# Altium footprint library 基础元器件.PcbLib: 24 footprints (part 1 of 2)
Each footprint in its own frame and in the unit in brackets; x right, y up, seen from the top. Pads: shape width x height; smd on the part's side, far side on the other; paste and mask are expansions set on the pad; w line width, h text height; cw(c..) or ccw(c..) is an arc to the next point about the centre after c.
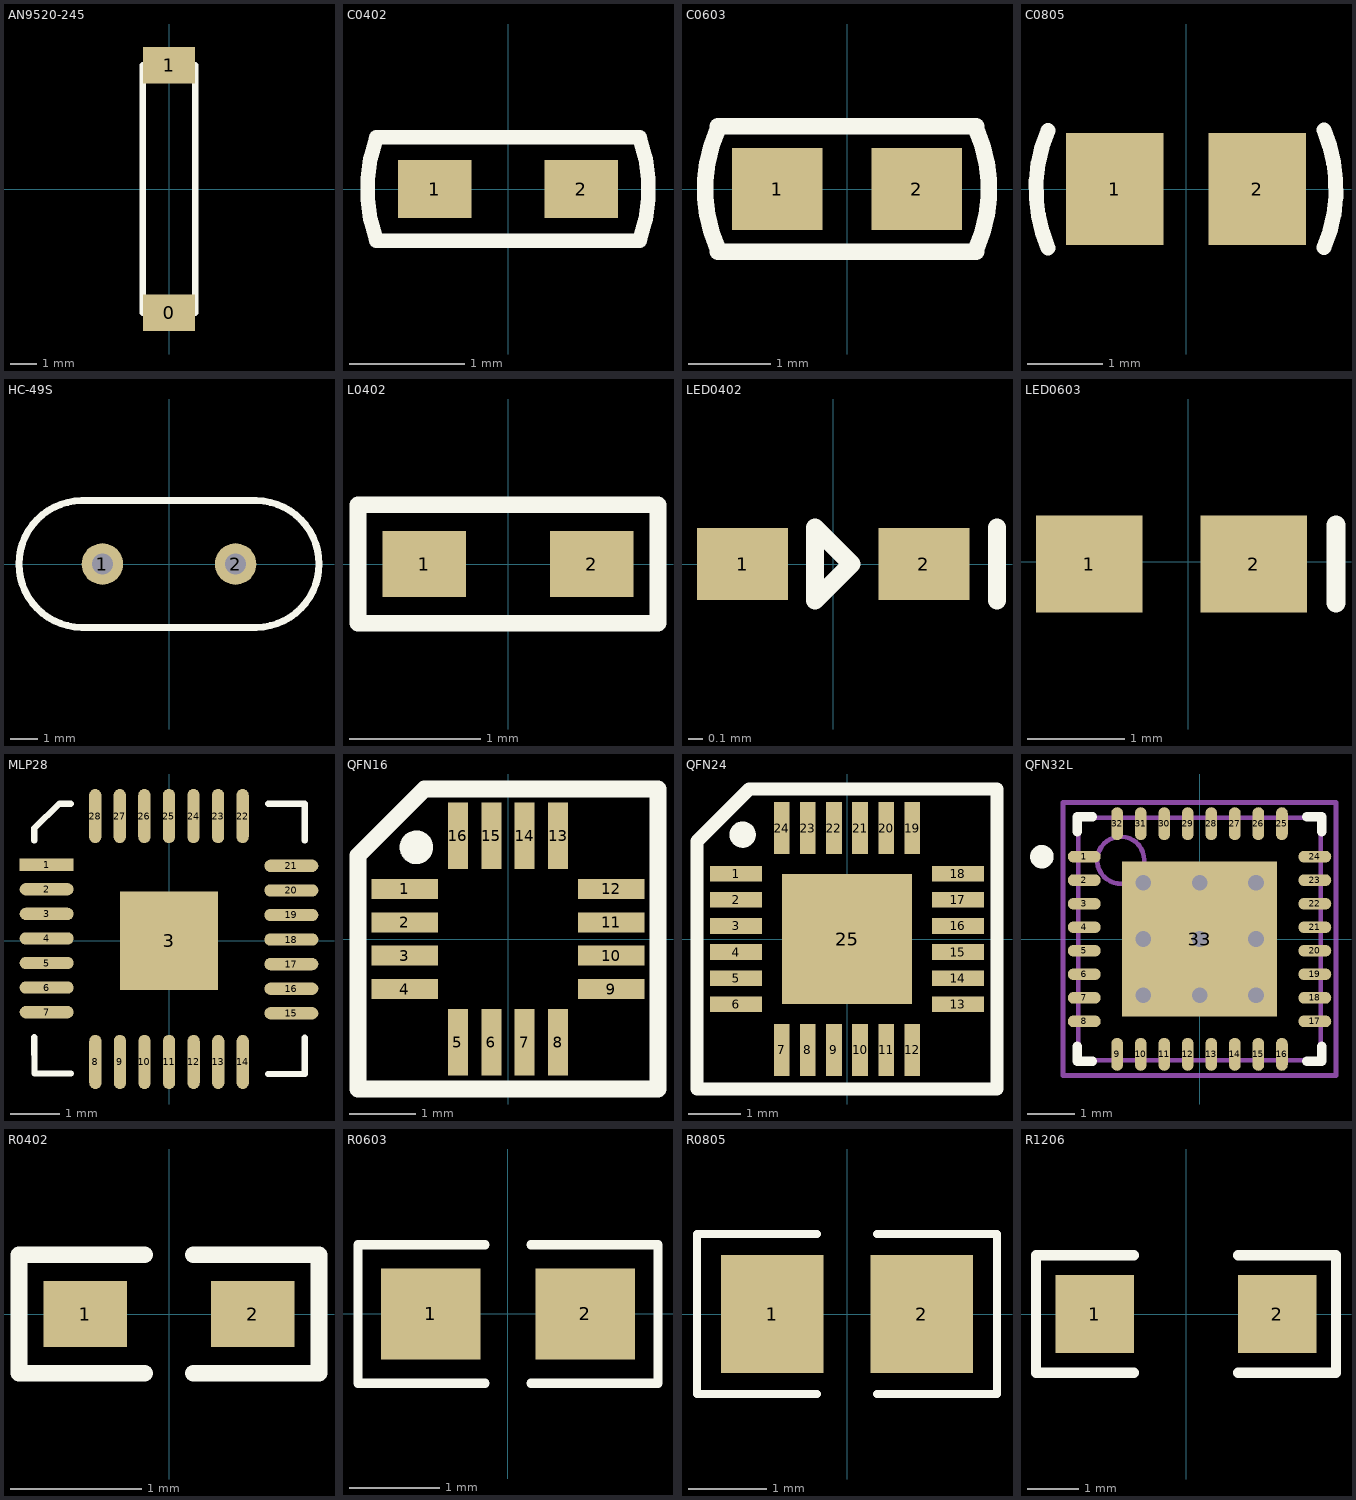
[diagram p0: the footprints below, top view; thin cyan lines are the x and y axes]

## AN9520-245 [mm] "贴片 2.4GHz 陶瓷天线 RainSun 9.5mm×2.0mm"
height 1
pads (2):
  rect 2x1.4 smd: 0(0,-4.75) 1(0,4.75)
Top Overlay:
  lines w0.254: -1,-4.75 -1,4.75 1,4.75 1,-4.75 -1,-4.75

## C0402 [mm] "0402 贴片 电容 无极性 带丝印"
height 0.5
pads (2):
  rect 0.635x0.5 smd: 1(-0.635,0) 2(0.635,0)
Top Overlay:
  lines w0.127: -1.144,-0.431 cw(c0.04,0) -1.144,0.431 ; -1.14,-0.45 1.14,-0.45 ; -1.14,0.45 1.14,0.45 ; 1.144,-0.431 ccw(c-0.04,0) 1.144,0.431

## C0603 [mm] "0603 贴片 电容 无极性 带丝印"
pads (2):
  rect 1.1x1 smd: 1(-0.85,0) 2(0.85,0)
Top Overlay:
  lines w0.2: -1.574,-0.762 1.574,-0.762 ; -1.574,-0.727 cw(c0.048,0) -1.574,0.727 ; -1.574,0.762 1.574,0.762 ; 1.574,-0.727 ccw(c-0.048,0) 1.574,0.727
3D body: height 1, standoff 0, extent -1.143,-0.381 1.143,0.381

## C0805 [mm] "0805 贴片 电容 无极性 带丝印"
height 1
pads (2):
  rect 1.3x1.5 smd: 1(-0.95,0) 2(0.95,0)
Top Overlay:
  lines w0.2: -1.842,0.779 ccw(c0,0) -1.838,-0.789 ; 1.838,0.789 cw(c0,0) 1.842,-0.779
3D body: height 0.9, standoff 0, extent 0.889,-0.635 1.27,0.635
3D body: height 0.9, standoff 0, extent -1.27,-0.635 -0.889,0.635
3D body: height 0.8, standoff 0, extent -1.016,-0.635 1.016,0.635

## HC-49S [mil] "直插 无源晶振 2Pin 12M HC-49S"
height 137.8
pads (2):
  round 60 hole 30: 1(-96.06,0) 2(96.06,0)
Top Overlay:
  lines w10: -125.98,-91.54 cw(c-125,0) -125.98,91.54 125.98,91.54 cw(c125,0) 125.98,-91.54 -125.98,-91.54

## L0402 [mm] "0402 贴片 电感 无极性 带丝印"
height 0.5
pads (2):
  rect 0.635x0.5 smd: 1(-0.635,0) 2(0.635,0)
Top Overlay:
  lines w0.127: -1.14,-0.45 -1.14,0.45 1.14,0.45 1.14,-0.45 -1.14,-0.45

## LED0402 [mm] "0402 贴片 发光二级管 1.0mm×0.5mm"
height 0.5
pads (2):
  rect 0.635x0.5 smd: 1(-0.632,0) 2(0.633,0)
Top Overlay:
  lines w0.127: 1.143,-0.254 1.143,0.254 ; -0.127,-0.254 0.127,0 -0.127,0.254 -0.127,-0.254

## LED0603 [mm] "0603 贴片 发光二极管 1.6mm×0.8mm"
height 0.85
pads (2):
  rect 1.1x1 smd: 1(-1.025,-0.021) 2(0.675,-0.021)
Top Overlay:
  lines w0.2: 1.525,-0.421 1.525,0.379

## MLP28 [mm]
pads (29):
  rect 1.1x0.25 smd: 1(-2.489,1.549)
  oval 1.1x0.25 smd: 2(-2.489,1.049) 3(-2.489,0.549) 4(-2.489,0.049) 5(-2.489,-0.451) 6(-2.489,-0.951) 7(-2.489,-1.451) 15(2.489,-1.473) 16(2.489,-0.973) 17(2.489,-0.473) 18(2.489,0.027) 19(2.489,0.527) 20(2.489,1.027) 21(2.489,1.527)
  rect 2x2 smd: 3(0,0)
  oval 0.25x1.1 smd: 8(-1.499,-2.464) 9(-0.999,-2.464) 10(-0.499,-2.464) 11(0.001,-2.464) 12(0.501,-2.464) 13(1.001,-2.464) 14(1.501,-2.464) 22(1.499,2.54) 23(0.999,2.54) 24(0.499,2.54) 25(-0.001,2.54) 26(-0.501,2.54) 27(-1.001,2.54) 28(-1.501,2.54)
Top Overlay:
  lines w0.127: -2.739,-1.96 -2.739,-2.7 -1.999,-2.7 ; -2.739,2.04 -2.739,2.29 -2.229,2.79 -1.999,2.79 ; 2.021,-2.71 2.761,-2.71 2.761,-1.97 ; 2.021,2.79 2.761,2.79 2.761,2.04

## QFN16 [mm]
pads (16):
  rect 1x0.3 smd: 1(-1.55,0.75) 2(-1.55,0.25) 3(-1.55,-0.25) 4(-1.55,-0.75) 9(1.55,-0.75) 10(1.55,-0.25) 11(1.55,0.25) 12(1.55,0.75)
  rect 0.3x1 smd: 5(-0.75,-1.55) 6(-0.25,-1.55) 7(0.25,-1.55) 8(0.75,-1.55) 13(0.75,1.55) 14(0.25,1.55) 15(-0.25,1.55) 16(-0.75,1.55)
Top Overlay:
  circle w0.254: c-1.375,1.375 r0.125
  lines w0.254: -2.25,-2.25 -2.25,1.25 -1.25,2.25 2.25,2.25 2.25,-2.25 -2.25,-2.25
3D body: height 0.92, standoff 0, extent -1.5,-1.5 1.5,1.5

## QFN24 [mm]
pads (25):
  rect 1x0.3 smd: 1(-2.125,1.25) 2(-2.125,0.75) 3(-2.125,0.25) 4(-2.125,-0.25) 5(-2.125,-0.75) 6(-2.125,-1.25) 13(2.125,-1.25) 14(2.125,-0.75) 15(2.125,-0.25) 16(2.125,0.25) 17(2.125,0.75) 18(2.125,1.25)
  rect 0.3x1 smd: 7(-1.25,-2.125) 8(-0.75,-2.125) 9(-0.25,-2.125) 10(0.25,-2.125) 11(0.75,-2.125) 12(1.25,-2.125) 19(1.25,2.125) 20(0.75,2.125) 21(0.25,2.125) 22(-0.25,2.125) 23(-0.75,2.125) 24(-1.25,2.125)
  rect 2.5x2.5 smd: 25(0,0)
Top Overlay:
  circle w0.254: c-2,2 r0.125
  lines w0.254: -2.875,-2.875 2.875,-2.875 2.875,2.875 -1.25,2.875 -1.875,2.875 -2.875,1.875 -2.875,1.25 -2.875,-2.875
3D body: height 0.9, standoff 0, extent -2.002,-2.002 2.002,2.002

## QFN32L [mm]
pads (33):
  oval 0.7x0.25 smd: 1(-2.45,1.75) 2(-2.45,1.25) 3(-2.45,0.75) 4(-2.45,0.25) 5(-2.45,-0.25) 6(-2.45,-0.75) 7(-2.45,-1.25) 8(-2.45,-1.75) 17(2.45,-1.75) 18(2.45,-1.25) 19(2.45,-0.75) 20(2.45,-0.25) 21(2.45,0.25) 22(2.45,0.75) 23(2.45,1.25) 24(2.45,1.75)
  oval 0.25x0.7 smd: 9(-1.75,-2.45) 10(-1.25,-2.45) 11(-0.75,-2.45) 12(-0.25,-2.45) 13(0.25,-2.45) 14(0.75,-2.45) 15(1.25,-2.45) 16(1.75,-2.45) 25(1.75,2.45) 26(1.25,2.45) 27(0.75,2.45) 28(0.25,2.45) 29(-0.25,2.45) 30(-0.75,2.45) 31(-1.25,2.45) 32(-1.75,2.45)
  rect 3.3x3.3 smd: 33(0,0)
via 1.2,-1.2 diameter 0.66 hole 0.33
via 0,-1.2 diameter 0.66 hole 0.33
via -1.2,-1.2 diameter 0.66 hole 0.33
via 1.2,0 diameter 0.66 hole 0.33
via 0,0 diameter 0.66 hole 0.33
via -1.2,0 diameter 0.66 hole 0.33
via 1.2,1.2 diameter 0.66 hole 0.33
via 0,1.2 diameter 0.66 hole 0.33
via -1.2,1.2 diameter 0.66 hole 0.33
Top Overlay:
  circle w0.25: c-3.35,1.75 r0.125
  lines w0.2: -2.6,-2.275 -2.6,-2.6 -2.275,-2.6 ; -2.6,2.275 -2.6,2.6 -2.275,2.6 ; 2.275,-2.6 2.6,-2.6 2.6,-2.275 ; 2.275,2.6 2.6,2.6 2.6,2.275
Mechanical 13:
  circle w0.1: c-1.675,1.675 r0.5
  lines w0.1: -2.575,-2.575 2.575,-2.575 2.575,2.575 -2.575,2.575 -2.575,-2.575
Mechanical 15:
  lines w0.1: -0.5,0 0.5,0 ; 0,-0.5 0,0.5 ; -2.9,-2.9 2.9,-2.9 2.9,2.9 -2.9,2.9 -2.9,-2.9
3D body: height 0.8, standoff 0, extent -2.575,-2.575 2.575,2.575

## R0402 [mm] "0402 贴片 电阻 带丝印"
height 0.5
pads (2):
  rect 0.635x0.5 smd: 1(-0.635,0) 2(0.635,0)
Top Overlay:
  lines w0.127: -0.185,-0.45 -1.14,-0.45 -1.14,0.45 -0.185,0.45 ; 0.185,-0.45 1.14,-0.45 1.14,0.45 0.185,0.45

## R0603 [mm] "0603 贴片 电阻 带丝印"
height 0.6
pads (2):
  rect 1.1x1 smd: 1(-0.85,0) 2(0.85,0)
Top Overlay:
  lines w0.1: -0.254,-0.762 -1.651,-0.762 -1.651,0.762 -0.254,0.762 ; 0.254,-0.762 1.651,-0.762 1.651,0.762 0.254,0.762
3D body: height 1, standoff 0, extent -1.143,-0.381 1.143,0.381

## R0805 [mm] "0805 贴片 电阻 带丝印"
height 1.1
pads (2):
  rect 1.3x1.5 smd: 1(-0.95,0) 2(0.95,0)
Top Overlay:
  lines w0.1: -0.381,-1.016 -1.905,-1.016 -1.905,1.016 -0.381,1.016 ; 0.381,-1.016 1.905,-1.016 1.905,1.016 0.381,1.016
3D body: height 1, standoff 0, extent -1.143,-0.508 -1.016,0.508
3D body: height 1, standoff 0, extent 1.016,-0.508 1.143,0.508
3D body: height 1, standoff 0, extent -1.016,-0.508 1.016,0.508

## R1206 [mil] "1206 贴片 电阻 带丝印"
height 59.06
pads (2):
  rect 60x60 smd: 1(-70,0) 2(70,0)
Top Overlay:
  lines w7.87: -40,-45 -115,-45 -115,45 -40,45 ; 40,-45 115,-45 115,45 40,45
3D body: height 39.37, standoff 0, extent -75,-35 -55,35
3D body: height 39.37, standoff 0, extent 55,-35 75,35
3D body: height 39.37, standoff 0, extent -55,-35 55,35